# Altium footprint library ESP32-PicoDK.PcbLib: 20 footprints (part 2 of 2)
Each footprint in its own frame and in the unit in brackets; x right, y up, seen from the top. Pads: shape width x height; smd on the part's side, far side on the other; paste and mask are expansions set on the pad; w line width, h text height; cw(c..) or ccw(c..) is an arc to the next point about the centre after c.
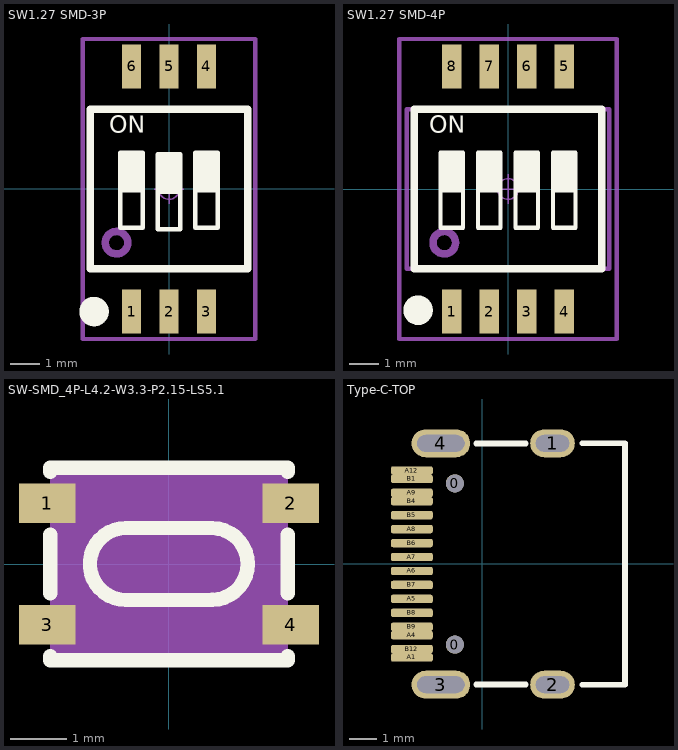
[diagram p1: the footprints below, top view; thin cyan lines are the x and y axes]

## SW1.27 SMD-3P [mm] "长：5.41mm，宽：5.4mm，高：2.3mm           淘宝ID:黄晶宝石"
pads (6):
  rect 0.65x1.5 smd: 1(-1.27,-4.15) 2(0,-4.15) 3(1.27,-4.15) 4(1.27,4.15) 5(0,4.15) 6(-1.27,4.15)
Top Overlay:
  circle w0.5: c-2.54,-4.15 r0.25
  region: -0.889,1.225 -1.651,1.225 -1.651,-0.045 -0.889,-0.045
  region: 0.381,1.184 -0.381,1.184 -0.381,-0.086 0.381,-0.086
  region: 1.651,1.225 0.889,1.225 0.889,-0.045 1.651,-0.045
  lines w0.15: -1.651,-0.045 -0.889,-0.045 ; -0.381,-0.086 0.381,-0.086 ; 0.889,-0.045 1.651,-0.045 ; -1.651,-1.315 -0.889,-1.315 -0.889,1.225 -1.651,1.225 -1.651,-1.315 ; -0.381,-1.356 0.381,-1.356 0.381,1.184 -0.381,1.184 -0.381,-1.356 ; 0.889,-1.315 1.651,-1.315 1.651,1.225 0.889,1.225 0.889,-1.315
  lines w0.254: -2.667,-2.7 -2.667,2.7 2.667,2.7 2.667,-2.7 -2.667,-2.7
  text "ON" at -2.032,1.696 h1
Mechanical 13:
  circle w0.254: c-1.778,-1.819 r0.381
  lines w0.15: -2.667,-2.7 2.705,-2.7 2.705,2.7 -2.667,2.7 -2.667,-2.7
Mechanical 15:
  circle w0.05: c0,0 r0.35
  lines w0.05: -0.5,0 0.5,0 ; 0,-0.5 0,0.5
  lines w0.15: -2.921,-5.08 2.159,-5.08 2.921,-5.08 2.921,5.08 -2.921,5.08 -2.921,-5.08
3D body "SW1.27-SMD-3P.STEP": height 2.35, standoff 0, extent -2.705,-4.35 2.705,4.35

## SW1.27 SMD-4P [mm] "长：6.68mm，宽：5.4mm，高：2.3mm"
height 1.5
pads (8):
  rect 0.65x1.5 smd: 1(-1.905,-4.15) 2(-0.635,-4.15) 3(0.635,-4.15) 4(1.905,-4.15) 5(1.905,4.15) 6(0.635,4.15) 7(-0.635,4.15) 8(-1.905,4.15)
Top Overlay:
  circle w0.5: c-3.048,-4.105 r0.25
  region: -1.524,1.225 -2.286,1.225 -2.286,-0.045 -1.524,-0.045
  region: -0.254,1.225 -1.016,1.225 -1.016,-0.045 -0.254,-0.045
  region: 1.016,1.225 0.254,1.225 0.254,-0.045 1.016,-0.045
  region: 2.286,1.225 1.524,1.225 1.524,-0.045 2.286,-0.045
  lines w0.15: -2.286,-0.045 -1.524,-0.045 ; -1.016,-0.045 -0.254,-0.045 ; 0.254,-0.045 1.016,-0.045 ; 1.524,-0.045 2.286,-0.045 ; -2.286,-1.315 -1.524,-1.315 -1.524,1.225 -2.286,1.225 -2.286,-1.315 ; -1.016,-1.315 -0.254,-1.315 -0.254,1.225 -1.016,1.225 -1.016,-1.315 ; 0.254,-1.315 1.016,-1.315 1.016,1.225 0.254,1.225 0.254,-1.315 ; 1.524,-1.315 2.286,-1.315 2.286,1.225 1.524,1.225 1.524,-1.315
  lines w0.254: -3.175,-2.7 -3.175,2.7 3.175,2.7 3.175,-2.7 -3.175,-2.7
  text "ON" at -2.667,1.696 h1
Mechanical 13:
  circle w0.254: c-2.159,-1.819 r0.381
  lines w0.15: -3.429,-2.7 3.429,-2.7 3.429,2.7 -3.429,2.7 -3.429,-2.7
Mechanical 15:
  circle w0.05: c0,0 r0.35
  lines w0.05: -0.5,0 0.5,0 ; 0,-0.5 0,0.5
  lines w0.15: -3.683,-5.08 2.159,-5.08 3.683,-5.08 3.683,5.08 -3.683,5.08 -3.683,-5.08
3D body "SW1.27-SMD-4P.STEP": height 2.35, standoff 0, extent -3.34,-4.35 3.34,4.35

## SW-SMD_4P-L4.2-W3.3-P2.15-LS5.1 [mm]
height 4.3
pads (4):
  rect 1x0.7 smd: 1(-2.15,1.075) 2(2.15,1.075) 3(-2.15,-1.075) 4(2.15,-1.075)
Top Overlay:
  lines w0.254: -2.1,-1.631 -2.1,-1.7 2.1,-1.7 2.1,-1.631 ; -2.1,-0.519 -2.1,0.519 ; -2.1,1.631 -2.1,1.7 2.1,1.7 2.1,1.631 ; -0.763,0.636 ccw(c-0.763,0) -0.762,-0.635 0.762,-0.635 ; -0.762,0.635 0.762,0.635 cw(c0.757,0) 0.761,-0.634 ; 2.1,-0.519 2.1,0.519
Mechanical 4:
  region: -2.1,-1.6 -2.1,1.6 2.1,1.6 2.1,-1.6
Mechanical 5:
  region: -2.05,1.35 -1.65,1.35 -1.65,0.8 -2.05,0.8
  region: 1.65,1.35 2.05,1.35 2.05,0.8 1.65,0.8
  region: 1.65,-0.8 2.05,-0.8 2.05,-1.35 1.65,-1.35
  region: -2.05,-0.8 -1.65,-0.8 -1.65,-1.35 -2.05,-1.35
Mechanical 6:
  circle w0.06: c-2.1,-1.6 r0.03

## Type-C-TOP [mm]
height 4.3
pads (22):
  round 0.65 hole 0.65: 0(-0.98,-2.89) 0(-0.98,2.89)
  oval 1.6x1 hole 0.6 slot 1.2 at 0 deg: 1(2.52,4.325) 2(2.52,-4.325)
  oval 2.1x1 hole 0.6 slot 1.7 at 0 deg: 3(-1.48,-4.325) 4(-1.48,4.325)
  rrect50% 1.5x0.3 smd: A1(-2.52,-3.35) A4(-2.52,-2.55) A5(-2.52,-1.25) A6(-2.52,-0.25) A7(-2.52,0.25) A8(-2.52,1.25) A9(-2.52,2.55) A12(-2.52,3.35) B1(-2.52,3.05) B4(-2.52,2.25) B5(-2.52,1.75) B6(-2.52,0.75) B7(-2.52,-0.75) B8(-2.52,-1.75) B9(-2.52,-2.25) B12(-2.52,-3.05)
Top Overlay:
  lines w0.203: -0.219,-4.318 1.559,-4.318 ; -0.219,4.318 1.559,4.318 ; 3.591,-4.325 5.12,-4.325 5.12,4.325 3.591,4.325
3D body "1.step": height 3.26, standoff -1, extent -2.568,-4.475 5.182,4.475